# Altium footprint library esp32-c3 mini.PcbLib: 1 footprints
Each footprint in its own frame and in the unit in brackets; x right, y up, seen from the top. Pads: shape width x height; smd on the part's side, far side on the other; paste and mask are expansions set on the pad; w line width, h text height; cw(c..) or ccw(c..) is an arc to the next point about the centre after c.
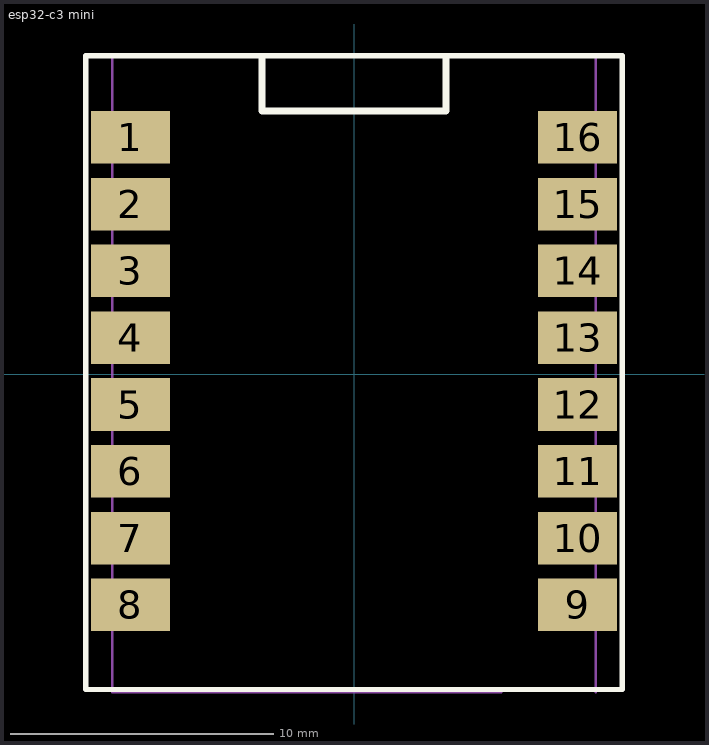
[diagram p0: the footprint, top view; thin cyan lines are the x and y axes]

## esp32-c3 mini [mm]
height 0.55
pads (16):
  rect 3x2 smd: 1(-8.5,9) 2(-8.5,6.46) 3(-8.5,3.92) 4(-8.5,1.38) 5(-8.5,-1.16) 6(-8.5,-3.7) 7(-8.5,-6.24) 8(-8.5,-8.78) 9(8.5,-8.78) 10(8.5,-6.24) 11(8.5,-3.7) 12(8.5,-1.16) 13(8.5,1.38) 14(8.5,3.92) 15(8.5,6.46) 16(8.5,9)
Top Overlay:
  lines w0.2: -10.2,-12 -10.2,12.1 10.2,12.1 10.2,-12 -10.2,-12
  lines w0.254: -3.5,12 -3.5,10 3.5,10 3.5,12
Top Assembly:
  lines w0.1: 5.6,-12.1 -9.2,-12.1 -9.2,12.1 9.2,12.1 9.2,0.8 9.2,-0.6 9.2,-12.1
  text "'.Designator'" at -0.975,-0.35 h0.7
3D body "ESP32-C3 SuperMini.SLDPRT": height 3.85, standoff -0.01, extent -9.005,-12 9.005,11.9